# Altium footprint library Bran.PcbLib: 102 footprints (part 3 of 7)
Each footprint in its own frame and in the unit in brackets; x right, y up, seen from the top. Pads: shape width x height; smd on the part's side, far side on the other; paste and mask are expansions set on the pad; w line width, h text height; cw(c..) or ccw(c..) is an arc to the next point about the centre after c.
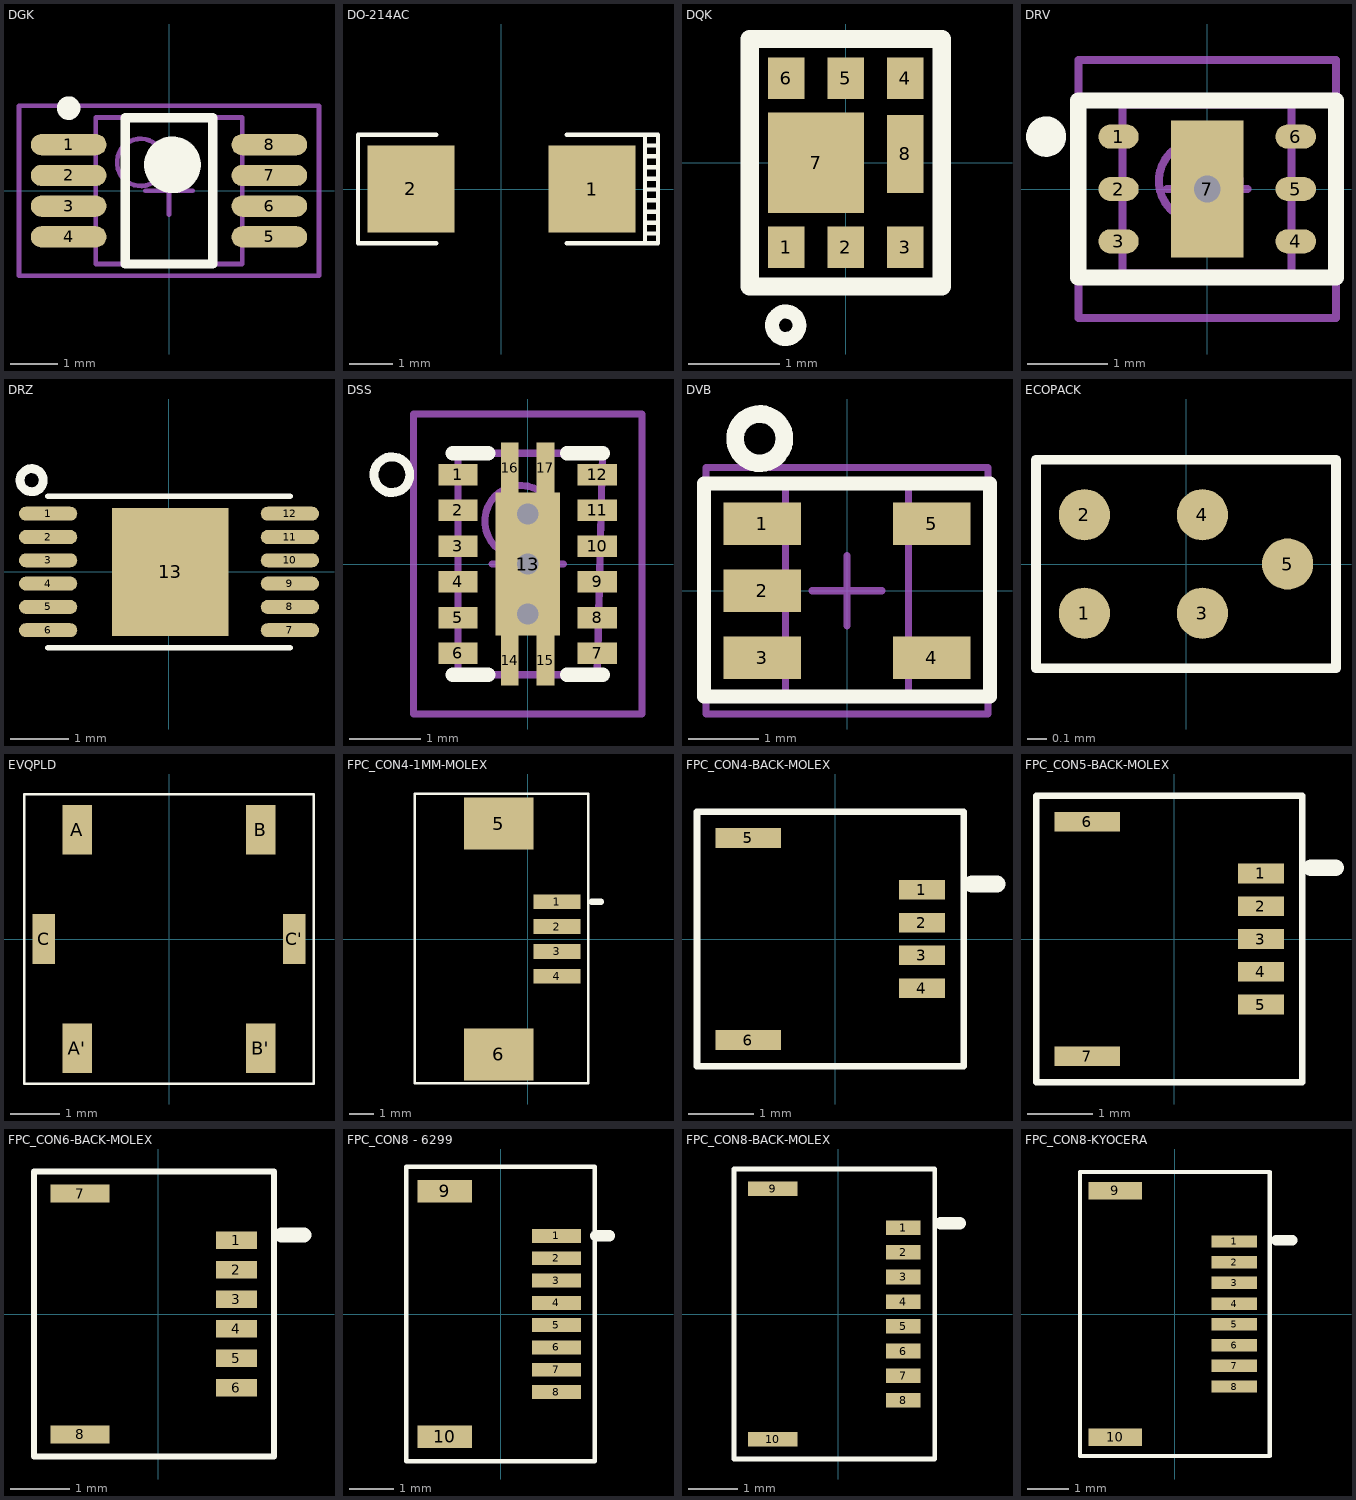
[diagram p2: the footprints below, top view; thin cyan lines are the x and y axes]

## DGK [mm] "TSOP, 8-Leads, Body 3.1x3.1mm (max), Pitch 0.65mm, IPC Medium Density"
height 1.1
pads (8):
  oval 1.6x0.45 smd: 1(-2.125,0.975) 2(-2.125,0.325) 3(-2.125,-0.325) 4(-2.125,-0.975) 5(2.125,-0.975) 6(2.125,-0.325) 7(2.125,0.325) 8(2.125,0.975)
Top Overlay:
  circle w0.25: c-2.125,1.75 r0.125
  circle w0.6: c0.075,0.55 r0.3
  lines w0.2: -0.925,-1.55 -0.925,1.55 0.925,1.55 0.925,-1.55 -0.925,-1.55
Mechanical 13:
  circle w0.1: c-0.6,0.6 r0.5
  lines w0.1: -1.55,-1.55 -1.55,1.55 1.55,1.55 1.55,-1.55 -1.55,-1.55
Mechanical 15:
  lines w0.1: -0.5,0 0.5,0 ; 0,-0.5 0,0.5 ; -3.175,-1.8 -3.175,1.8 3.175,1.8 3.175,-1.8 -3.175,-1.8
3D body: height 1.1, standoff 0.05, extent -1.55,-1.55 1.55,1.55

## DO-214AC [mm]
pads (2):
  rect 2x2 smd: 1(2.085,0) 2(-2.085,0)
Top Overlay:
  lines w0.1: -1.5,-1.25 -3.3,-1.25 -3.3,1.25 -1.5,1.25 ; 1.5,-1.25 3.6,-1.25 3.6,1.25 1.5,1.25 ; 3.3,-1.25 3.3,1.25
  lines w0.102: 3.302,-1.024 3.6,-1.024 ; 3.302,-0.774 3.6,-0.774 ; 3.302,-0.524 3.6,-0.524 ; 3.302,-0.262 3.6,-0.262 ; 3.302,-0.012 3.6,-0.012 ; 3.302,0.238 3.6,0.238 ; 3.302,0.5 3.6,0.5 ; 3.302,0.75 3.6,0.75 ; 3.302,1 3.6,1
3D body: height 0.9, standoff 0, extent -3.187,-1.102 3.187,1.102

## DQK [mm]
pads (8):
  rect 0.4x0.455 smd: 1(-0.65,-0.923) 2(0,-0.923) 3(0.65,-0.923) 4(0.65,0.923) 5(0,0.923) 6(-0.65,0.923)
  rect 1.05x1.1 smd: 7(-0.325,0)
  rect 0.4x0.85 smd: 8(0.65,0.096)
Top Overlay:
  circle w0.152: c-0.658,-1.778 r0.15
  lines w0.2: -1.05,-1.354 1.05,-1.354 1.05,1.354 -1.05,1.354 -1.05,-1.354
3D body: height 0.8, standoff 0, extent -0.952,-1.252 0.952,1.252

## DRV [mm]
height 0.8
pads (7):
  oval 0.5x0.3 smd: 1(-1.1,0.65) 2(-1.1,0) 3(-1.1,-0.65) 4(1.1,-0.65) 5(1.1,0) 6(1.1,0.65)
  rect 0.9x1.7 smd: 7(0,0)
via 0,0 diameter 0.66 hole 0.33
Top Overlay:
  circle w0.25: c-2,0.65 r0.125
  lines w0.2: -1.6,-1.1 -1.6,1.1 1.6,1.1 1.6,-1.1 -1.6,-1.1
Mechanical 13:
  circle w0.1: c-0.1,0.1 r0.5
  lines w0.1: -1.05,-1.05 -1.05,1.05 1.05,1.05 1.05,-1.05 -1.05,-1.05
Mechanical 15:
  lines w0.1: -0.5,0 0.5,0 ; 0,-0.5 0,0.5 ; -1.6,-1.6 -1.6,1.6 1.6,1.6 1.6,-1.6 -1.6,-1.6
3D body: height 0.8, standoff 0.05, extent -1.05,-1.05 1.05,1.05

## DRZ [mm]
pads (13):
  oval 1x0.24 smd: 1(-2.075,1) 2(-2.075,0.6) 3(-2.075,0.2) 4(-2.075,-0.2) 5(-2.075,-0.6) 6(-2.075,-1) 7(2.075,-1) 8(2.075,-0.6) 9(2.075,-0.2) 10(2.075,0.2) 11(2.075,0.6) 12(2.075,1)
  rect 2x2.2 smd: 13(0.025,0)
Top Overlay:
  circle w0.152: c-2.357,1.575 r0.198
  lines w0.1: -2.075,-1.3 2.075,-1.3 ; -2.075,1.3 2.075,1.3
3D body: height 1, standoff 0, extent -2.677,-1.242 2.677,1.242

## DSS [mm] "QFN, 12-Leads, Body 3.1x2.1mm (max), Pitch 0.50mm, IPC Medium Density"
height 0.8
pads (17):
  rect 0.55x0.3 smd: 1(-0.975,1.25) 2(-0.975,0.75) 3(-0.975,0.25) 4(-0.975,-0.25) 5(-0.975,-0.75) 6(-0.975,-1.25) 7(0.975,-1.25) 8(0.975,-0.75) 9(0.975,-0.25) 10(0.975,0.25) 11(0.975,0.75) 12(0.975,1.25)
  rect 0.9x2 smd: 13(0,0)
  rect 0.25x0.7 smd: 14(-0.25,-1.35) 15(0.25,-1.35) 16(-0.25,1.35) 17(0.25,1.35)
via 0,0.7 diameter 0.5 hole 0.3
via 0,-0.7 diameter 0.5 hole 0.3
via 0,0 diameter 0.5 hole 0.3
Top Overlay:
  circle w0.125: c-1.9,1.25 r0.25
  lines w0.2: -1.05,-1.55 -0.55,-1.55 ; -1.05,1.55 -0.55,1.55 ; 0.55,-1.55 1.05,-1.55 ; 0.55,1.55 1.05,1.55
Mechanical 13:
  circle w0.1: c-0.1,0.6 r0.5
  lines w0.1: 0.975,1.55 -0.975,1.55 -0.975,-1.55 0.975,-1.55 1.05,1.55
Mechanical 15:
  lines w0.1: -0.5,0 0.5,0 ; 0,-0.5 0,0.5 ; -1.6,-2.1 -1.6,2.1 1.6,2.1 1.6,-2.1 -1.6,-2.1
3D body: height 0.8, standoff 0, extent -1.05,-1.55 1.05,1.55

## DVB [mm] "厂家：TI，型号：LMV321IDBVR"
pads (5):
  rect 1.1x0.6 smd: 1(-1.2,0.95) 2(-1.2,0) 3(-1.2,-0.95) 4(1.2,-0.95) 5(1.2,0.95)
Top Overlay:
  circle w0.25: c-1.239,2.159 r0.35
  lines w0.2: -2.032,-1.5 2.032,-1.5 2.032,1.524 -2.032,1.524 -2.032,-1.5
Mechanical 13:
  lines w0.1: -0.875,-1.5 -0.875,1.5 0.875,1.5 0.875,-1.5 -0.875,-1.5
Mechanical 15:
  lines w0.1: -0.5,0 0.5,0 ; 0,-0.5 0,0.5 ; -2,-1.75 -2,1.75 2,1.75 2,-1.75 -2,-1.75
3D body: height 1.45, standoff 0.15, extent -0.875,-1.5 0.875,1.5

## ECOPACK [mm]
height 0.69
pads (5):
  round 0.26 smd: 1(-0.516,-0.25) 2(-0.516,0.25) 3(0.083,-0.25) 4(0.083,0.25) 5(0.517,0)
Top Overlay:
  lines w0.05: -0.763,-0.53 -0.763,0.53 0.763,0.53 0.763,-0.53 -0.763,-0.53
3D body: height 0.69, standoff 0, extent -0.748,-0.482 0.748,0.482

## EVQPLD [mm]
pads (6):
  rect 0.6x1 smd: A(-1.85,2.2) A'(-1.85,-2.2) B(1.85,2.2) B'(1.85,-2.2)
  rect 0.45x1 smd: C(-2.525,0) C'(2.525,0)
Top Overlay:
  lines w0.05: -2.921,-2.921 -2.921,2.921 2.921,2.921 2.921,-2.921 -2.921,-2.921

## FPC_CON4-1MM-MOLEX [mm] "厂家：Molex，型号：5034800400_sd"
pads (6):
  rect 1.9x0.6 smd: 1(1.175,1.5) 2(1.175,0.5) 3(1.175,-0.5) 4(1.175,-1.5)
  rect 2.8x2.1 smd: 5(-1.175,4.65) 6(-1.175,-4.65)
Top Overlay:
  lines w0.1: -4.555,-5.818 2.445,-5.818 2.445,5.866 -4.555,5.866 -4.555,-5.818
  lines w0.254: 2.572,1.5 2.953,1.5

## FPC_CON4-BACK-MOLEX [mm] "厂家：Molex，型号：5034800400_sd"
pads (6):
  rect 0.7x0.3 smd: 1(1.325,0.75) 2(1.325,0.25) 3(1.325,-0.25) 4(1.325,-0.75)
  rect 1x0.3 smd: 5(-1.325,1.54) 6(-1.325,-1.54)
Top Overlay:
  lines w0.1: -2.104,-1.937 1.96,-1.937 1.96,1.937 -2.104,1.937 -2.104,-1.937
  lines w0.254: 2.087,0.838 2.468,0.838
3D body: height 1, standoff 0, extent -1.927,-1.792 1.777,1.792

## FPC_CON5-BACK-MOLEX [mm] "厂家：Molex，型号：5034800500_sd"
pads (7):
  rect 0.7x0.3 smd: 1(1.325,1) 2(1.325,0.5) 3(1.325,0) 4(1.325,-0.5) 5(1.325,-1)
  rect 1x0.3 smd: 6(-1.325,1.79) 7(-1.325,-1.79)
Top Overlay:
  lines w0.1: -2.104,-2.187 1.96,-2.187 1.96,2.187 -2.104,2.187 -2.104,-2.187
  lines w0.254: 2.087,1.088 2.468,1.088
3D body: height 1, standoff 0, extent -1.927,-2.042 1.777,2.042

## FPC_CON6-BACK-MOLEX [mm] "厂家：Molex，型号：5034800600_sd"
pads (8):
  rect 0.7x0.3 smd: 1(1.325,1.25) 2(1.325,0.75) 3(1.325,0.25) 4(1.325,-0.25) 5(1.325,-0.75) 6(1.325,-1.25)
  rect 1x0.3 smd: 7(-1.325,2.04) 8(-1.325,-2.04)
Top Overlay:
  lines w0.1: -2.104,-2.413 -2.104,2.413 1.96,2.413 1.96,-2.413 -2.104,-2.413
  lines w0.254: 2.087,1.338 2.468,1.338
3D body: height 1, standoff 0, extent -1.927,-2.292 1.777,2.292

## FPC_CON8 - 6299 [mm]
pads (10):
  rect 1.1x0.31 smd: 1(1.25,1.75) 2(1.25,1.25) 3(1.25,0.75) 4(1.25,0.25) 5(1.25,-0.25) 6(1.25,-0.75) 7(1.25,-1.25) 8(1.25,-1.75)
  rect 1.22x0.5 smd: 9(-1.25,2.75) 10(-1.25,-2.75)
Top Overlay:
  lines w0.1: -2.11,-3.3 -2.11,3.3 2.11,3.3 2.11,-3.3 -2.11,-3.3
  lines w0.254: 2.134,1.753 2.438,1.753
3D body: height 1.03, standoff 0, extent -1.962,-3.102 1.902,3.102

## FPC_CON8-BACK-MOLEX [mm] "厂家：Molex，型号：5034800800_sd"
pads (10):
  rect 0.7x0.3 smd: 1(1.325,1.75) 2(1.325,1.25) 3(1.325,0.75) 4(1.325,0.25) 5(1.325,-0.25) 6(1.325,-0.75) 7(1.325,-1.25) 8(1.325,-1.75)
  rect 1x0.3 smd: 9(-1.325,2.54) 10(-1.325,-2.54)
Top Overlay:
  lines w0.1: -2.104,-2.937 -2.104,2.937 1.96,2.937 1.96,-2.937 -2.104,-2.937
  lines w0.254: 2.087,1.838 2.468,1.838
3D body: height 1, standoff 0, extent -1.927,-2.792 1.777,2.792

## FPC_CON8-KYOCERA [mm] "厂家：京瓷，型号：04 6298 708 100 883+"
pads (10):
  rect 1.1x0.3 smd: 1(1.435,1.75) 2(1.435,1.25) 3(1.435,0.75) 4(1.435,0.25) 5(1.435,-0.25) 6(1.435,-0.75) 7(1.435,-1.25) 8(1.435,-1.75)
  rect 1.3x0.42 smd: 9(-1.435,2.97) 10(-1.435,-2.97)
Top Overlay:
  lines w0.1: -2.286,-3.429 2.295,-3.429 2.295,3.429 -2.286,3.429 -2.286,-3.429
  lines w0.254: 2.45,1.778 2.831,1.778
3D body: height 1, standoff 0, extent -2.187,-3.282 2.087,3.282